# Altium schematic symbol library reg_DDR.SchLib: 2 symbols
Pins are listed as number, name and electrical type; pins without a type are passive.

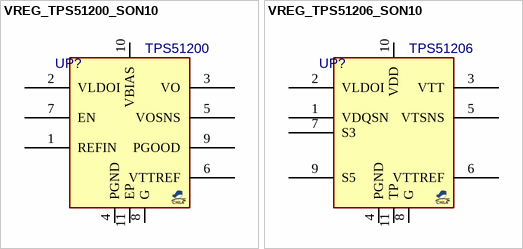
[diagram p0: symbols VREG_TPS51200_SON10 to VREG_TPS51206_SON10]

## VREG_TPS51200_SON10
designator UP?, comment TPS51200
REG, Linear, LDO, 3A Sink/Source DDR Termination, SON-10; MANF: TI; PARAM2: VLDOIN 1.1~3.5V; MANF_P#: TPS51200DRCT; ASSEMBLY: ASSEMBLY; PARAM: 3A; PRICE: -; DESC: REG, Linear, LDO, 3A Sink/Source DDR Termination, SON-10; VALUE: TPS51200
footprint SON50_10T_3X3 (DRC SON(TI), 10 TDFN (MAXIM), 3X3mm, Pitch: 0.5mm with thermal pad)
pins: 1 REFIN, 2 VLDOI, 3 VO, 4 PGND, 5 VOSNS, 6 VTTREF, 7 EN, 8 G, 9 PGOOD, 10 VBIAS, 11 EP

## VREG_TPS51206_SON10
designator UP?, comment TPS51206
REG, Linear, LDO, 2A Sink/Source DDR Termination, SON-10; MANF: TI; DESC: REG, Linear, LDO, 3A Sink/Source DDR Termination, SON-10; PARAM2: 3.3/5Vcc,; MANF_P#: TPS51206DSQ; ASSEMBLY: ASSEMBLY; PARAM: 2A; PRICE: -; VALUE: TPS51206
footprint SON40_10T_2020 (WSON, 10-LEAD, DSQ, 0.4mm pitch, 2x2mm)
pins: 1 VDQSN, 2 VLDOI, 3 VTT, 4 PGND, 5 VTSNS, 6 VTTREF, 7 S3, 8 G, 9 S5, 10 VDD, 11 TP